# EAGLE library part PWM_DRIVER (library madHaddr)
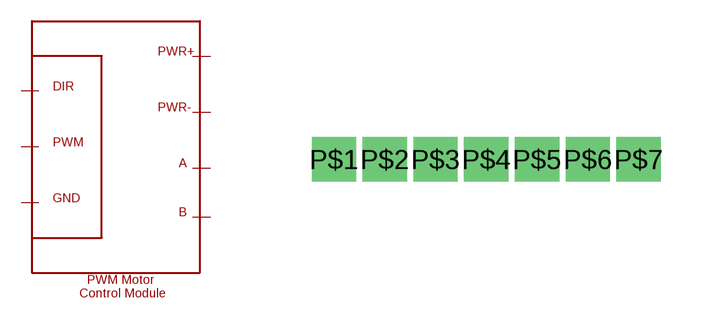
[diagram p6: symbol with the pads of PWM_DRIVER; footprint PWM_DRIVER]

Designator prefix -

## PWM_DRIVER  [PWM_DRIVER]
P$1  P$1
P$2  P$2
P$3  P$3
P$4  P$4
P$5  P$5
P$6  P$6
P$7  P$7

## Footprint PWM_DRIVER (pad centres in mm)
drill 0.6 square: P$1 -12.7,1.27; P$2 -11.43,1.27; P$3 -10.16,1.27; P$4 -8.89,1.27; P$5 -7.62,1.27; P$6 -6.35,1.27; P$7 -5.08,1.27